# EAGLE library part LMP91000 (library lmp91000)
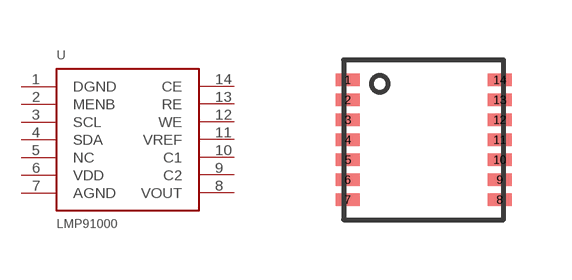
[diagram p0: symbol with the pads of LMP91000; footprint LMP91000]

Designator prefix U

## LMP91000  [LMP91000]
1  DGND
2  MENB
3  SCL
4  SDA
5  NC
6  VDD
7  AGND
8  VOUT
9  C2
10  C1
11  VREF
12  WE
13  RE
14  CE

## Footprint LMP91000 (pad centres in mm)
smd 0.61 x 0.305: 1 0.1,3.5; 2 0.1,3; 3 0.1,2.5; 4 0.1,2; 5 0.1,1.5; 6 0.1,1; 7 0.1,0.5; 8 3.9,0.5; 9 3.9,1; 10 3.9,1.5; 11 3.9,2; 12 3.9,2.5; 13 3.9,3; 14 3.9,3.5